# Altium footprint library 变压器.PcbLib: 4 footprints
Each footprint in its own frame and in the unit in brackets; x right, y up, seen from the top. Pads: shape width x height; smd on the part's side, far side on the other; paste and mask are expansions set on the pad; w line width, h text height; cw(c..) or ccw(c..) is an arc to the next point about the centre after c.
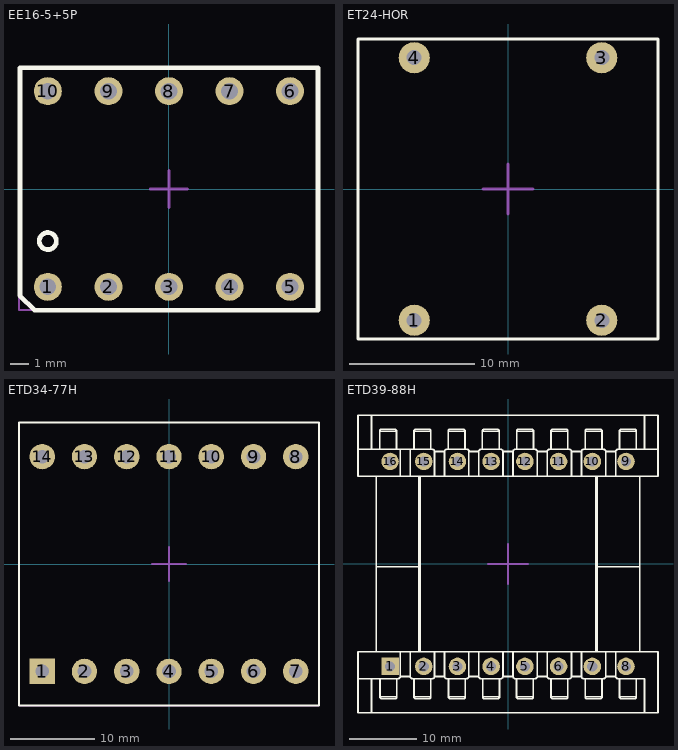
[diagram p0: the footprints below, top view; thin cyan lines are the x and y axes]

## EE16-5+5P [mm] "EE16立式高频变压器"
height 16
pads (10):
  round 1.5 hole 0.9: 1(-6.5,-5.25) 2(-3.25,-5.25) 3(0,-5.25) 4(3.25,-5.25) 5(6.5,-5.25) 6(6.5,5.25) 7(3.25,5.25) 8(0,5.25) 9(-3.25,5.25) 10(-6.5,5.25)
Top Overlay:
  circle w0.254: c-6.5,-2.794 r0.458
  lines w0.254: -8,-5.716 -7.216,-6.5 8,-6.5 8,6.5 -8,6.5 -8,-5.716
Mechanical 13:
  lines w0.1: -8.048,-6.5 8.052,-6.5 8.052,6.5 -8.048,6.5 -8.048,-6.5
Mechanical 15:
  lines w0.15: -1,0 1,0 ; 0,-1 0,1
3D body: height 15.1, standoff -3.9, extent -8.048,-6.5 8.052,6.5

## ET24-HOR [mm] "ET24共模滤波器"
height 20
pads (4):
  round 2.5 hole 1.2: 1(-7.5,-10.5) 2(7.5,-10.5) 3(7.5,10.5) 4(-7.5,10.5)
Top Overlay:
  lines w0.254: -12,-12 -12,12 12,12 12,-12 -12,-12
Mechanical 15:
  lines w0.254: -2,0 2,0 ; 0,-2 0,2
3D body: height 21.5, standoff -3.25, extent -12.1,-12.116 12.1,12.104

## ETD34-77H [mm] "ETD34磁芯变压器"
height 32.9
pads (14):
  rect 3x3 hole 1.6: 1(-15,-12.7)
  round 3 hole 1.6: 2(-10,-12.7) 3(-5,-12.7) 4(0,-12.7) 5(5,-12.7) 6(10,-12.7) 7(15,-12.7) 8(15,12.7) 9(10,12.7) 10(5,12.7) 11(0,12.7) 12(-5,12.7) 13(-10,12.7) 14(-15,12.7)
Top Overlay:
  lines w0.2: -17.75,-16.75 17.75,-16.75 17.75,16.75 -17.75,16.75 -17.75,-16.75
Mechanical 13:
  lines w0.05: -17.75,-16.75 17.75,-16.75 17.75,16.75 -17.75,16.75 -17.75,-16.75
Mechanical 15:
  lines w0.254: -2,0 2,0 ; 0,-2 0,2
3D body: height 25.3, standoff -3.7, extent -17.75,-16.75 17.75,16.75

## ETD39-88H [mm] "ETD39磁芯变压器"
height 35.5
pads (16):
  rect 2.6x2.6 hole 1.5: 1(-17.5,-15.2)
  round 2.6 hole 1.5: 2(-12.5,-15.2) 3(-7.5,-15.2) 4(-2.5,-15.2) 5(2.5,-15.2) 6(7.5,-15.2) 7(12.5,-15.2) 8(17.5,-15.2) 9(17.5,15.2) 10(12.5,15.2) 11(7.5,15.2) 12(2.5,15.2) 13(-2.5,15.2) 14(-7.5,15.2) 15(-12.5,15.2) 16(-17.5,15.2)
Top Overlay:
  drawing of 255 lines, arcs and shapes, not listed
Mechanical 15:
  lines w0.25: -3,0 3,0 ; 0,-3 0,3
3D body: height 35.73, standoff -3.2, extent -22.254,-22.248 22.246,22.192